# Altium schematic symbol library Schlib2.SchLib: 92 symbols (part 1 of 4)
Pins are listed as number, name and electrical type; pins without a type are passive.

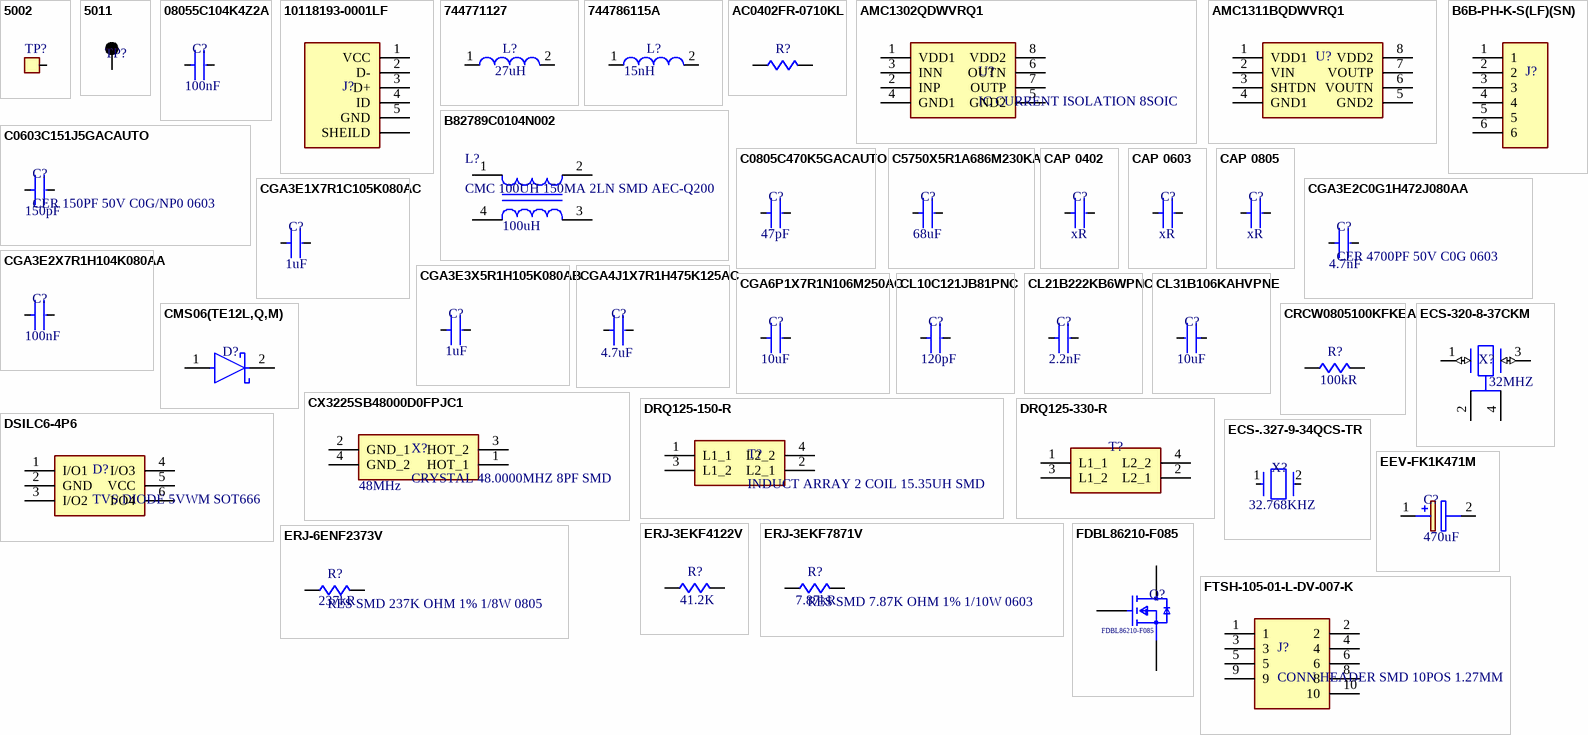
[diagram p0: symbols 5002 to FTSH-105-01-L-DV-007-K]

## 5002
designator TP?, comment PC TEST POINT MINIATURE WHITE  (value not drawn)
Manufacturer: Keystone Electronics; Manufacturer Part Number: 5002; Description: Interconnection Device; Supplier: Digi-Key; Supplier Part Number: 36-5002-ND; RoHS: Yes; Category: Connectors; Stock: 1311223; Pricing: 1=0.38, 25=0.308, 100=0.3015, 250=0.28304, 500=0.2523, 1000=0.17746, 2500=0.16225, 5000=0.15211 (USD); Contact Finish - Termination: Silver (Ag); JESD-609 Code: e4; Connector Type: Interconnection Device; Reach SVHC Compliant: Yes; RoHS Compliant: Yes; ComponentLink1URL: https://datasheet.ciiva.com:443/pdfs/VipMasterIC/IC/KEYC/KEYCS01036/KEYCS02044-1.pdf?src-supplier=IHS+Markit; ComponentLink1Description: https://datasheet.ciiva.com:443/pdfs/VipMasterIC/IC/KEYC/KEYCS01036/KEYCS02044-1.pdf?src-supplier=IHS+Markit; ComponentLink2URL: https://datasheet.ciiva.com/22631/1703983-22631101.pdf?src-supplier=Element14; ComponentLink2Description: https://datasheet.ciiva.com/22631/1703983-22631101.pdf?src-supplier=Element14; ComponentLink3URL: https://datasheet.ciiva.com/16351/m60-2p60-16351079.pdf?src-supplier=Future+Electronics; ComponentLink3Description: https://datasheet.ciiva.com/16351/m60-2p60-16351079.pdf?src-supplier=Future+Electronics; ComponentLink4URL: https://datasheet.ciiva.com/2917/5000-5004-2917628.pdf?src-supplier=Digi-Key; ComponentLink4Description: https://datasheet.ciiva.com/2917/5000-5004-2917628.pdf?src-supplier=Digi-Key
footprint FP-5002-MFG
pins: 1

## 5011
designator TP?, comment PC TEST POINT MULTIPURPOSE BLACK  (value not drawn)
Manufacturer: Keystone Electronics; Manufacturer Part Number: 5011; Description: Interconnection Device; Supplier: Digi-Key; Supplier Part Number: 36-5011-ND; RoHS: Yes; Category: Connectors; Stock: 642738; Pricing: 1=0.38, 25=0.308, 100=0.3015, 250=0.28304, 500=0.2523, 1000=0.17746, 2500=0.16225, 5000=0.15211 (USD); Connector Type: Interconnection Device; Reach SVHC Compliant: Yes; RoHS Compliant: Yes; ComponentLink1URL: https://datasheet.ciiva.com:443/pdfs/VipMasterIC/IC/KEYC/KEYC-S-A0000709140/KEYC-S-A0000709140-1.pdf?src-supplier=IHS+Markit; ComponentLink1Description: https://datasheet.ciiva.com:443/pdfs/VipMasterIC/IC/KEYC/KEYC-S-A0000709140/KEYC-S-A0000709140-1.pdf?src-supplier=IHS+Markit; ComponentLink2URL: https://datasheet.ciiva.com/1454/1718230-1454834.pdf?src-supplier=Element14; ComponentLink2Description: https://datasheet.ciiva.com/1454/1718230-1454834.pdf?src-supplier=Element14; ComponentLink3URL: https://datasheet.ciiva.com/11744/0900766b8009b7c7-11744935.pdf?src-supplier=Rs; ComponentLink3Description: https://datasheet.ciiva.com/11744/0900766b8009b7c7-11744935.pdf?src-supplier=Rs; ComponentLink4URL: https://datasheet.ciiva.com/2917/5011-2917635.pdf?src-supplier=Digi-Key; ComponentLink4Description: https://datasheet.ciiva.com/2917/5011-2917635.pdf?src-supplier=Digi-Key; ComponentLink5URL: https://datasheet.ciiva.com/16351/m60-2p60-16351093.pdf?src-supplier=Future+Electronics; ComponentLink5Description: https://datasheet.ciiva.com/16351/m60-2p60-16351093.pdf?src-supplier=Future+Electronics; ComponentLink6URL: https://datasheet.ciiva.com/46412/1703983-46412138.pdf?src-supplier=Element14; ComponentLink6Description: https://datasheet.ciiva.com/46412/1703983-46412138.pdf?src-supplier=Element14
footprint KSTN-5011_V (Test Point, Dia 3.17mm)
pins: 1

## 08055C104K4Z2A
designator C?, comment value 100nF  (hidden comment: CER 0.1UF 50V X7R 0805)
Manufacturer: Kyocera AVX; Manufacturer Part Number: 08055C104K4Z2A; Dielectric Material: Ceramic; Multilayer: Yes; Tolerance  (fill in as +-): 10%; Reference Standard: AEC-Q200; Supplier: Digi-Key; Supplier Part Number: 478-6048-1-ND; RoHS: Yes; Category: Ceramic Capacitors; Stock: 1342408; Pricing: 1=0.16, 10=0.112, 50=0.0636, 100=0.0527, 500=0.03696, 1000=0.0306 (USD); Mounting Technology: Surface Mount; Pins: 2; Package Shape: Rectangular; Case/Package: 0805; Terminal Finish: Nickel; Min Operating Temperature: -55°C; Max Operating Temperature: 125°C; JESD-609 Code: e3; Capacitor Type: Ceramic; Package Style: SMTMeter; Packaging: Tape and Reel; Tolerance (fill in as +-): 10%; Rated DC Voltage (URdc): 50V; Temperature Characteristics Code: X7R; Termination: Wraparound; Length: 2.01mm; Width: 1.25mm; Height: 1.27mm; Reach SVHC Compliant: Yes; RoHS Compliant: Yes; ComponentLink1URL: https://datasheet.ciiva.com:443/pdfs/VipMasterIC/IC/AVXC/AVXC-S-A0009957027/AVXC-S-A0009957027-1.pdf?src-supplier=IHS+Markit; ComponentLink1Description: https://datasheet.ciiva.com:443/pdfs/VipMasterIC/IC/AVXC/AVXC-S-A0009957027/AVXC-S-A0009957027-1.pdf?src-supplier=IHS+Markit; ComponentLink2URL: https://datasheet.ciiva.com/11504/flexiterm-11504268.pdf?src-supplier=Avnet; ComponentLink2Description: https://datasheet.ciiva.com/11504/flexiterm-11504268.pdf?src-supplier=Avnet; ComponentLink3URL: https://datasheet.ciiva.com/16326/cauto-16326441.pdf?src-supplier=Future+Electronics; ComponentLink3Description: https://datasheet.ciiva.com/16326/cauto-16326441.pdf?src-supplier=Future+Electronics; ComponentLink4URL: https://datasheet.ciiva.com/7812/flexiterm-7812078.pdf?src-supplier=Element14; ComponentLink4Description: https://datasheet.ciiva.com/7812/flexiterm-7812078.pdf?src-supplier=Element14; ComponentLink5URL: https://datasheet.ciiva.com/7812/flexiterm-7812077.pdf?src-supplier=Element14; ComponentLink5Description: https://datasheet.ciiva.com/7812/flexiterm-7812077.pdf?src-supplier=Element14; ComponentLink6URL: https://datasheet.ciiva.com/28613/630895-28613343.pdf?src-supplier=Element14; ComponentLink6Description: https://datasheet.ciiva.com/28613/630895-28613343.pdf?src-supplier=Element14; ComponentLink7URL: https://datasheet.ciiva.com/28613/630895-28613350.pdf?src-supplier=Element14; ComponentLink7Description: https://datasheet.ciiva.com/28613/630895-28613350.pdf?src-supplier=Element14; ComponentLink8URL: https://datasheet.ciiva.com/151/flexiterm-151543.pdf?src-supplier=Digi-Key; ComponentLink8Description: https://datasheet.ciiva.com/151/flexiterm-151543.pdf?src-supplier=Digi-Key; ComponentLink9URL: https://datasheet.ciiva.com/151/flexiterm-151542.pdf?src-supplier=Digi-Key; ComponentLink9Description: https://datasheet.ciiva.com/151/flexiterm-151542.pdf?src-supplier=Digi-Key; ComponentLink10URL: https://datasheet.ciiva.com/151/flexiterm-151544.pdf?src-supplier=Digi-Key; ComponentLink10Description: https://datasheet.ciiva.com/151/flexiterm-151544.pdf?src-supplier=Digi-Key
footprint FP-CL21-IPC_C
pins: 1, 2

## 10118193-0001LF
designator J?, comment CONN RCPT USB2.0 MICRO B SMD R/A  (value not drawn)
FCI Right Angle Surface Mount Mount Female USB Connector; 100 V ac; 1.8A; Manufacturer: Amphenol ICC / FCI; Manufacturer Part Number: 10118193-0001LF; Supplier: Digi-Key; Supplier Part Number: 609-4616-1-ND; RoHS: No; Category: USB Connectors; Stock: 298826; Pricing: 1=0.46, 10=0.404, 25=0.3696, 50=0.3478, 100=0.3334, 250=0.30436, 500=0.28988 (USD); ComponentLink1URL: http://uk.rs-online.com/webdocs/1450/0900766b814507f1.pdf?src-supplier=Rs; ComponentLink1Description: http://uk.rs-online.com/webdocs/1450/0900766b814507f1.pdf?src-supplier=Rs; ComponentLink2URL: https://cdn.amphenol-icc.com/media/wysiwyg/files/documentation/datasheet/inputoutput/io_usb_micro.pdf?src-supplier=Verical; ComponentLink2Description: https://cdn.amphenol-icc.com/media/wysiwyg/files/documentation/datasheet/inputoutput/io_usb_micro.pdf?src-supplier=Verical; ComponentLink3URL: https://cdn.amphenol-icc.com/media/wysiwyg/files/documentation/datasheet/inputoutput/io_usb_micro.pdf?src-supplier=Avnet; ComponentLink3Description: https://cdn.amphenol-icc.com/media/wysiwyg/files/documentation/datasheet/inputoutput/io_usb_micro.pdf?src-supplier=Avnet; ComponentLink4URL: http://www.amphenol-icc.com/media/wysiwyg/files/drawing/10118193.pdf?src-supplier=Digi-Key; ComponentLink4Description: http://www.amphenol-icc.com/media/wysiwyg/files/drawing/10118193.pdf?src-supplier=Digi-Key; ComponentLink5URL: https://cdn.amphenol-icc.com/media/wysiwyg/files/documentation/datasheet/inputoutput/io_usb_micro.pdf?src-supplier=Digi-Key; ComponentLink5Description: https://cdn.amphenol-icc.com/media/wysiwyg/files/documentation/datasheet/inputoutput/io_usb_micro.pdf?src-supplier=Digi-Key; ComponentLink6URL: https://cdn.amphenol-icc.com/media/wysiwyg/files/documentation/datasheet/inputoutput/io_usb_micro.pdf?src-supplier=Arrow+Electronics; ComponentLink6Description: https://cdn.amphenol-icc.com/media/wysiwyg/files/documentation/datasheet/inputoutput/io_usb_micro.pdf?src-supplier=Arrow+Electronics; ComponentLink7URL: https://cdn.amphenol-icc.com/media/wysiwyg/files/documentation/datasheet/inputoutput/io_usb_micro.pdf?src-supplier=Allied+Electronics; ComponentLink7Description: https://cdn.amphenol-icc.com/media/wysiwyg/files/documentation/datasheet/inputoutput/io_usb_micro.pdf?src-supplier=Allied+Electronics; ComponentLink8URL: https://cdn.amphenol-icc.com/media/wysiwyg/files/documentation/datasheet/inputoutput/io_usb_micro.pdf?src-supplier=Onlinecomponents.com; ComponentLink8Description: https://cdn.amphenol-icc.com/media/wysiwyg/files/documentation/datasheet/inputoutput/io_usb_micro.pdf?src-supplier=Onlinecomponents.com; ComponentLink9URL: https://cdn.amphenol-icc.com/media/wysiwyg/files/documentation/datasheet/inputoutput/io_usb_micro.pdf?src-supplier=Mouser; ComponentLink9Description: https://cdn.amphenol-icc.com/media/wysiwyg/files/documentation/datasheet/inputoutput/io_usb_micro.pdf?src-supplier=Mouser; ComponentLink10URL: https://cdn.amphenol-icc.com/media/wysiwyg/files/documentation/datasheet/inputoutput/io_usb_micro.pdf?src-supplier=Rs; ComponentLink10Description: https://cdn.amphenol-icc.com/media/wysiwyg/files/documentation/datasheet/inputoutput/io_usb_micro.pdf?src-supplier=Rs; ComponentLink11URL: https://cdn.amphenol-icc.com/media/wysiwyg/files/documentation/datasheet/inputoutput/io_usb_micro.pdf?src-supplier=Heilind+Electronics; ComponentLink11Description: https://cdn.amphenol-icc.com/media/wysiwyg/files/documentation/datasheet/inputoutput/io_usb_micro.pdf?src-supplier=Heilind+Electronics; ComponentLink12URL: https://cdn.amphenol-icc.com/media/wysiwyg/files/documentation/datasheet/inputoutput/io_usb_micro.pdf?src-supplier=TTI; ComponentLink12Description: https://cdn.amphenol-icc.com/media/wysiwyg/files/documentation/datasheet/inputoutput/io_usb_micro.pdf?src-supplier=TTI; ComponentLink13URL: https://cdn.amphenol-icc.com/media/wysiwyg/files/documentation/datasheet/inputoutput/io_usb_micro.pdf?src-supplier=TME; ComponentLink13Description: https://cdn.amphenol-icc.com/media/wysiwyg/files/documentation/datasheet/inputoutput/io_usb_micro.pdf?src-supplier=TME
footprint 101181930001LF
pins: 1 VCC, 2 D-, 3 D+, 4 ID, 5 GND, MH1 SHEILD, MH2, MP1, MP2, MP3, MP4

## 744771127
designator L?, comment Inductance-Nom (L): 27uH  (hidden comment: FIXED IND 27UH 2.97A 51 MOHM SMD)
Manufacturer: Wurth Electronics; Manufacturer Part Number: 744771127; Core Material: Ferrite; Tolerance: 20%; DC Resistance (DCR): 51mR; Inductor Application: POWER INDUCTOR; Inductor Type: GENERAL PURPOSE INDUCTOR; Channels: 1; Self Resonant Frequency: 11.6MHz; Shape/Size Description: RECTANGULAR PACKAGE; Shielding: Unshielded; Test Frequency: 1kHz; Supplier: Digi-Key; Supplier Part Number: 732-4116-1-ND; RoHS: Yes; Category: Fixed Inductors; Stock: 7873; Pricing: 1=2.26, 10=2.172, 50=1.961, 100=1.759, 250=1.61 (USD); Pins: 2; Terminal Finish: Copper; Min Operating Temperature: -40°C; Max Operating Temperature: 125°C; JESD-609 Code: e1; Manufacturer Series: 744771127; Max Current Rating: 2.97A; Surface Mount: Yes; Terminal Placement: Dual Ended; Termination: One Surface; Reach SVHC Compliant: Yes; RoHS Compliant: Yes; ComponentLink1URL: https://datasheet.ciiva.com:443/pdfs/VipMasterIC/IC/MIDC/MIDC-S-A0007237670/MIDC-S-A0007087757-1.pdf?src-supplier=IHS+Markit; ComponentLink1Description: https://datasheet.ciiva.com:443/pdfs/VipMasterIC/IC/MIDC/MIDC-S-A0007237670/MIDC-S-A0007087757-1.pdf?src-supplier=IHS+Markit; ComponentLink2URL: https://datasheet.ciiva.com/13320/744771127-69883-13320904.pdf?src-supplier=Mouser; ComponentLink2Description: https://datasheet.ciiva.com/13320/744771127-69883-13320904.pdf?src-supplier=Mouser; ComponentLink3URL: https://datasheet.ciiva.com/23790/1645865-23790778.pdf?src-supplier=Newark; ComponentLink3Description: https://datasheet.ciiva.com/23790/1645865-23790778.pdf?src-supplier=Newark; ComponentLink4URL: https://datasheet.ciiva.com/6697/744771127-6697187.pdf?src-supplier=Digi-Key; ComponentLink4Description: https://datasheet.ciiva.com/6697/744771127-6697187.pdf?src-supplier=Digi-Key; ComponentLink5URL: https://datasheet.ciiva.com/30489/0900766b81281ba7-30489238.pdf?src-supplier=Rs; ComponentLink5Description: https://datasheet.ciiva.com/30489/0900766b81281ba7-30489238.pdf?src-supplier=Rs; ComponentLink6URL: https://datasheet.ciiva.com/6697/744771127-6697190.pdf?src-supplier=Digi-Key; ComponentLink6Description: https://datasheet.ciiva.com/6697/744771127-6697190.pdf?src-supplier=Digi-Key; ComponentLink7URL: https://datasheet.ciiva.com/6697/744771127-6697189.pdf?src-supplier=Digi-Key; ComponentLink7Description: https://datasheet.ciiva.com/6697/744771127-6697189.pdf?src-supplier=Digi-Key; ComponentLink8URL: https://datasheet.ciiva.com/48690/001087752-da-01-ml-we-pd-smd-speicherdrossel-74477112-de-en-48690534.pdf?src-supplier=Conrad; ComponentLink8Description: https://datasheet.ciiva.com/48690/001087752-da-01-ml-we-pd-smd-speicherdrossel-74477112-de-en-48690534.pdf?src-supplier=Conrad
footprint WE-PD-L (SMD Inductor, 2-Leads, Body 12.0 x 12.0 mm)
pins: 1, 2

## 744786115A
designator L?, comment value 15nH  (hidden comment: FIXED IND 15NH 500MA 500MOHM SMD)
Manufacturer: Wurth Electronics; Manufacturer Part Number: 744786115A; Core Material: Ceramic; Inductance Tolerance: 5%; Shielding: Unshielded; DC Resistance (DCR): 500mR; Self Resonant Frequency: 2.3GHz; Test Frequency: 100MHz; Supplier: Digi-Key; Supplier Part Number: 732-6265-1-ND; RoHS: Yes; Category: Fixed Inductors; Stock: 34669; Pricing: 1=0.21, 50=0.197, 100=0.185, 500=0.167, 1000=0.143, 2000=0.113 (USD); Mounting Technology: Surface Mount; Case/Package: 0603; Case Code (Metric): 1608; Case Code (Imperial): 0603; Min Operating Temperature: -55°C; Max Operating Temperature: 125°C; Packaging: Cut Tape; Current Rating: 500mA; Max DC Current: 500mA; Tolerance: 5%; Series: WE-MK; Length: 0.063inch; Width: 0.031inch; Height - Seated (Max): 0.037inch; RoHS Compliant: Yes; Reach SVHC Compliant: Unknown; ComponentLink1URL: http://www.farnell.com/datasheets/1818771.pdf?src-supplier=Farnell; ComponentLink1Description: http://www.farnell.com/datasheets/1818771.pdf?src-supplier=Farnell; ComponentLink2URL: http://www.farnell.com/datasheets/1818771.pdf?src-supplier=Element14; ComponentLink2Description: http://www.farnell.com/datasheets/1818771.pdf?src-supplier=Element14; ComponentLink3URL: https://katalog.we-online.de/pbs/datasheet/744786115A.pdf?src-supplier=Digi-Key; ComponentLink3Description: https://katalog.we-online.de/pbs/datasheet/744786115A.pdf?src-supplier=Digi-Key
footprint FP-LBMF1608-0_8-0_2-IPC_C
pins: 1, 2

## AC0402FR-0710KL
designator R?, comment RES SMD 10K OHM 1% 1/16W 0402  (value not drawn)
Manufacturer: Yageo; Manufacturer Part Number: AC0402FR-0710KL; Additional Feature: LASER TRIMMABLE; Power: 62.5mW; Rated Temperature: 70°C; Value: 10kR; Temperature Coefficient: 100ppm/°C; Working Voltage: 50V; Package Height: 0.32mm; Package Length: 1mm; Package Width: 0.5mm; Reference Standard: AEC-Q200; Supplier: Future Electronics; Supplier Part Number: 2025338; RoHS: Yes; Category: Chip SMD Resistors; Stock: 15780000; Pricing: 10000=0.0014, 50000=0.0013, 250000=0.0012, 750000=0.0012, 2000000=0.0011 (USD); Mounting Technology: Surface Mount; Pins: 2; Package Shape: Rectangular; Case/Package: 0402; Terminal Finish: Nickel; Min Operating Temperature: -55°C; Max Operating Temperature: 155°C; Tolerance: 1%; JESD-609 Code: e3; Resistor Type: FIXED RESISTOR; Construction: Chip; Package Style: SMTMeter; Packaging: Tape and Reel; Technology: METAL GLAZE/THICK FILM; Termination: Wraparound; Reach SVHC Compliant: Yes; RoHS Compliant: Yes; ComponentLink1URL: https://datasheet.ciiva.com:443/pdfs/VipMasterIC/IC/YAGO/YAGO-S-A0003597364/YAGO-S-A0003597364-1.pdf?src-supplier=IHS+Markit; ComponentLink1Description: https://datasheet.ciiva.com:443/pdfs/VipMasterIC/IC/YAGO/YAGO-S-A0003597364/YAGO-S-A0003597364-1.pdf?src-supplier=IHS+Markit; ComponentLink2URL: https://datasheet.ciiva.com/12656/pyu-ac-51-rohs-l-2-12656634.pdf?src-supplier=Mouser; ComponentLink2Description: https://datasheet.ciiva.com/12656/pyu-ac-51-rohs-l-2-12656634.pdf?src-supplier=Mouser
footprint FP-AC0402-IPC_B
pins: 1, 2

## AMC1302QDWVRQ1
designator U?, comment IC CURRENT ISOLATION 8SOIC
footprint FP-DWV0008A-IPC_B
pins: 1 VDD1 (power), 2 INP (hiz), 3 INN (hiz), 4 GND1 (power), 5 GND2 (power), 6 OUTN, 7 OUTP, 8 VDD2 (power)

## AMC1311BQDWVRQ1
designator U?, comment IC VOLTAGE AMP ISOLATION 8SOIC  (value not drawn)
Operational Amplifier, 4 Func, 1600uV Offset-Max, CMOS, PDSO14; Manufacturer: Texas Instruments; Manufacturer Part Number: AMC1302QDWVRQ1; Amplifier Type: ISOLATION AMPLIFIER; Supplier: Digi-Key; Supplier Part Number: 296-50924-1-ND; RoHS: Yes; Category: Amplifiers - Op Amps, Buffer, Instrumentation; Stock: 2584; Pricing: 1=8.35, 10=7.541, 25=7.1904, 100=6.2435, 250=5.96284, 500=5.43672 (USD); Reach SVHC Compliant: Yes; RoHS Compliant: Yes; ComponentLink1URL: https://www.ti.com:443/lit/ds/symlink/amc1302-q1.pdf?src-supplier=IHS+Markit; ComponentLink1Description: https://www.ti.com:443/lit/ds/symlink/amc1302-q1.pdf?src-supplier=IHS+Markit; ComponentLink2URL: http://www.ti.com/general/docs/suppproductinfo.tsp?distId=10&amp;gotoUrl=http%3A%2F%2Fwww.ti.com%2Flit%2Fgpn%2Famc1302-q1&src-supplier=Digi-Key; ComponentLink2Description: http://www.ti.com/general/docs/suppproductinfo.tsp?distId=10&amp;gotoUrl=http%3A%2F%2Fwww.ti.com%2Flit%2Fgpn%2Famc1302-q1&src-supplier=Digi-Key; ComponentLink3URL: http://www.ti.com/lit/gpn/amc1302-q1?src-supplier=Digi-Key; ComponentLink3Description: http://www.ti.com/lit/gpn/amc1302-q1?src-supplier=Digi-Key
footprint SOIC127P1150X280-8N
pins: 1 VDD1, 2 VIN, 3 SHTDN, 4 GND1, 5 GND2, 6 VOUTN, 7 VOUTP, 8 VDD2

## B6B-PH-K-S(LF)(SN)
designator J?, comment CONN HEADER VERT 6POS 2MM  (value not drawn)
Manufacturer: JST; Manufacturer Part Number: B6B-PH-K-S(LF)(SN); Contact Resistance: 20mR; Current Rating: 2A; Voltage Rating: 100V; Number of Positions: 6; Insulation Resistance: 1MR; Gender: Male; Mated Stacking Heights: 8mm; Supplier: Digi-Key; Supplier Part Number: 455-1708-ND; RoHS: Yes; Category: Headers and Wire Housings; Stock: 93503; Pricing: 1=0.36, 10=0.304, 100=0.2362, 500=0.20242, 1000=0.16868, 5000=0.14458, 10000=0.13495 (USD); Mounting Technology: Through Hole; Pins: 6; Contact Material: Brass,Tin; Contact Plating: Tin,Copper; Housing Color: White; Housing Material: Polyamide; Contact Shape: Square; Contact Finish - Mating: TIN; Insulation Material: Nylon; Insulation Color: Natural; Min Operating Temperature: -25°C; Max Operating Temperature: 85°C; Number of Rows: 1; Packaging: Bulk; Max Current Rating: 2A; Termination: Solder; Fastening Type: Detent; Number of Contacts: 6; Max Voltage Rating (AC): 100V; Orientation: Straight; Series: PH; Contact Type: Male Pin; Number of Poles: 6; Voltage Rating (AC): 100V; Working Voltage: 100V; Connector Type: Header; Length: 13.9mm; Width: 4.5mm; Height: 9.4mm; Pitch: 2mm; Lead Pitch: 2mm; Depth: 4.5mm; Reach SVHC Compliant: No; Lead Free: Lead Free; Flammability Rating: UL94 V-0; ComponentLink1URL: https://datasheet.ciiva.com/712/eph-712563.pdf?src-supplier=Digi-Key; ComponentLink1Description: https://datasheet.ciiva.com/712/eph-712563.pdf?src-supplier=Digi-Key; ComponentLink2URL: https://datasheet.ciiva.com/26894/getdatasheetpartid-639917-26894487.pdf?src-supplier=Verical; ComponentLink2Description: https://datasheet.ciiva.com/26894/getdatasheetpartid-639917-26894487.pdf?src-supplier=Verical; ComponentLink3URL: https://datasheet.ciiva.com/8052/80560-8052027.pdf?src-supplier=Element14; ComponentLink3Description: https://datasheet.ciiva.com/8052/80560-8052027.pdf?src-supplier=Element14
footprint JST B6B-PH-K
pins: 1, 2, 3, 4, 5, 6

## B82789C0104N002
designator L?, comment CMC 100UH 150MA 2LN SMD AEC-Q200  value 100uH
Manufacturer: TDK EPCOS; Manufacturer Part Number: B82789C0104N002; Manufacturer Series: B82789C0; DC Resistance-Max: 1.5R; Filter Type: DATA LINE FILTER; Channels: 2; Output Impedance: 50R; Voltage Rating: 80V; Supplier: Digi-Key; Supplier Part Number: 495-5751-1-ND; RoHS: Yes; Category: Fixed Inductors; Stock: 40158; Pricing: 1=1.7, 10=1.571, 25=1.44, 50=1.2304, 100=1.0995, 250=0.94244, 500=0.8901, 1000=0.81156 (USD); Mounting Technology: Surface Mount; Terminal Finish: Tin; Min Operating Temperature: -55°C; Max Operating Temperature: 125°C; JESD-609 Code: e3; Packaging: Tape and Reel; Current Rating: 150mA; Length: 4.5mm; Height: 3mm; Reach SVHC Compliant: Yes; RoHS Compliant: Yes; ComponentLink1URL: https://datasheet.ciiva.com:443/pdfs/VipMasterIC/IC/TDKC/TDKC-S-A0008970033/TDKC-S-A0008970033-1.pdf?src-supplier=IHS+Markit; ComponentLink1Description: https://datasheet.ciiva.com:443/pdfs/VipMasterIC/IC/TDKC/TDKC-S-A0008970033/TDKC-S-A0008970033-1.pdf?src-supplier=IHS+Markit; ComponentLink2URL: https://datasheet.ciiva.com/22684/1899203-22684429.pdf?src-supplier=Element14; ComponentLink2Description: https://datasheet.ciiva.com/22684/1899203-22684429.pdf?src-supplier=Element14
footprint FP-B82789C0-MFG
pins: 1, 2, 3, 4

## C0603C151J5GACAUTO
designator C?, comment CER 150PF 50V C0G/NP0 0603  value 150pF
Manufacturer: KEMET; Manufacturer Part Number: C0603C151J5GACAUTO; Dielectric Material: Ceramic; Tolerance  (fill in as +-): 5%; Multilayer: Yes; Temperature Characteristics Code: C0G; Reference Standard: AEC-Q200; Supplier: Digi-Key; Supplier Part Number: 399-6860-1-ND; RoHS: Yes; Category: Ceramic Capacitors; Stock: 108002; Pricing: 1=0.1, 10=0.072, 50=0.0394, 100=0.0322, 500=0.02298, 1000=0.01805 (USD); Mounting Technology: Surface Mount; Pins: 2; Terminal Finish: Nickel; Package Shape: Rectangular; Case/Package: 0603; Min Operating Temperature: -55°C; Max Operating Temperature: 125°C; JESD-609 Code: e3; Capacitor Type: Ceramic; Packaging: Tape and Reel; Tolerance (fill in as +-): 5%; Rated DC Voltage (URdc): 50V; Termination: Wraparound; Package Style: SMTMeter; Length: 1.6mm; Width: 0.8mm; Height: 0.8mm; Reach SVHC Compliant: Yes; RoHS Compliant: Yes; ComponentLink1URL: https://datasheet.ciiva.com:443/pdfs/VipMasterIC/IC/KEME/KEME-S-A0008958445/KEME-S-A0008958445-1.pdf?src-supplier=IHS+Markit; ComponentLink1Description: https://datasheet.ciiva.com:443/pdfs/VipMasterIC/IC/KEME/KEME-S-A0008958445/KEME-S-A0008958445-1.pdf?src-supplier=IHS+Markit; ComponentLink2URL: https://datasheet.ciiva.com/22693/1633156-22693989.pdf?src-supplier=Element14; ComponentLink2Description: https://datasheet.ciiva.com/22693/1633156-22693989.pdf?src-supplier=Element14
footprint FP-CGA3E-0_3-0_1-IPC_C
pins: 1, 2

## C0805C470K5GACAUTO
designator C?, comment value 47pF  (hidden comment: CER 47PF 50V C0G/NP0 0805)
Manufacturer: KEMET; Manufacturer Part Number: C0805C470K5GACAUTO; Dielectric Material: Ceramic; Multilayer: Yes; Tolerance  (fill in as +-): 10%; Temperature Characteristics Code: C0G; Reference Standard: AEC-Q200; Supplier: Digi-Key; Supplier Part Number: 399-C0805C470K5GACAUTOCT-ND; RoHS: Yes; Category: Ceramic Capacitors; Stock: 11331; Pricing: 1=0.15, 10=0.11, 50=0.0626, 100=0.0518, 500=0.03634, 1000=0.03009 (USD); Pins: 2; Case/Package: 0805; Terminal Finish: Nickel; Min Operating Temperature: -55°C; Max Operating Temperature: 125°C; JESD-609 Code: e3; Capacitor Type: Ceramic; Package Style: SMTMeter; Packaging: Tape and Reel; Tolerance (fill in as +-): 10%; Rated DC Voltage (URdc): 50V; Length: 2mm; Width: 1.25mm; Height: 0.78mm; Reach SVHC Compliant: Yes; RoHS Compliant: Yes; ComponentLink1URL: https://datasheet.ciiva.com:443/pdfs/VipMasterIC/IC/KEME/KEME-S-A0008958445/KEME-S-A0008958445-1.pdf?src-supplier=IHS+Markit; ComponentLink1Description: https://datasheet.ciiva.com:443/pdfs/VipMasterIC/IC/KEME/KEME-S-A0008958445/KEME-S-A0008958445-1.pdf?src-supplier=IHS+Markit
footprint FP-CL21-IPC_C
pins: 1, 2

## C5750X5R1A686M230KA
designator C?, comment value 68uF  (hidden comment: CAP CER 68UF 10V X5R 2220)
Manufacturer: TDK; Manufacturer Part Number: C5750X5R1A686M230KA; Dielectric Material: Ceramic; Multilayer: Yes; Tolerance  (fill in as +-): 20%; Supplier: Digi-Key; Supplier Part Number: 445-1451-1-ND; RoHS: Yes; Category: Ceramic Capacitors; Stock: 58570; Pricing: 1=2.58, 10=2.083, 50=1.818, 100=1.5908 (USD); Mounting Technology: Surface Mount; Pins: 2; Package Shape: Rectangular; Case/Package: 2220; Terminal Finish: Nickel; Min Operating Temperature: -55°C; Max Operating Temperature: 85°C; JESD-609 Code: e3; Capacitor Type: Ceramic; Tolerance (fill in as +-): 20%; Rated DC Voltage (URdc): 10V; Temperature Characteristics Code: X5R; Termination: Wraparound; Package Style: SMTMeter; Packaging: Tape and Reel; Length: 5.7mm; Width: 5mm; Height: 2.3mm; Reach SVHC Compliant: Yes; RoHS Compliant: Yes; ComponentLink1URL: https://datasheet.ciiva.com:443/pdfs/VipMasterIC/IC/TDKC/TDKC-S-A0008796792/TDKC-S-A0008796792-1.pdf?src-supplier=IHS+Markit; ComponentLink1Description: https://datasheet.ciiva.com:443/pdfs/VipMasterIC/IC/TDKC/TDKC-S-A0008796792/TDKC-S-A0008796792-1.pdf?src-supplier=IHS+Markit; ComponentLink2URL: https://datasheet.ciiva.com/24219/c5750x5r1a686m230ka-265682-24219603.pdf?src-supplier=Mouser; ComponentLink2Description: https://datasheet.ciiva.com/24219/c5750x5r1a686m230ka-265682-24219603.pdf?src-supplier=Mouser; ComponentLink3URL: https://datasheet.ciiva.com/11788/0900766b80c1bb00-11788343.pdf?src-supplier=Rs; ComponentLink3Description: https://datasheet.ciiva.com/11788/0900766b80c1bb00-11788343.pdf?src-supplier=Rs; ComponentLink4URL: https://datasheet.ciiva.com/6283/tdkmlcccaprange-6283790.pdf?src-supplier=Digi-Key; ComponentLink4Description: https://datasheet.ciiva.com/6283/tdkmlcccaprange-6283790.pdf?src-supplier=Digi-Key; ComponentLink5URL: https://datasheet.ciiva.com/16427/e412-c-16427899.pdf?src-supplier=Future+Electronics; ComponentLink5Description: https://datasheet.ciiva.com/16427/e412-c-16427899.pdf?src-supplier=Future+Electronics; ComponentLink6URL: https://datasheet.ciiva.com/7975/1796654-7975198.pdf?src-supplier=Element14; ComponentLink6Description: https://datasheet.ciiva.com/7975/1796654-7975198.pdf?src-supplier=Element14; ComponentLink7URL: https://datasheet.ciiva.com/28563/1571323-28563223.pdf?src-supplier=Element14; ComponentLink7Description: https://datasheet.ciiva.com/28563/1571323-28563223.pdf?src-supplier=Element14
footprint C5750_Commercial
pins: 1, 2

## CAP 0402
designator C?, comment value xR  (hidden comment: x)
footprint FP-GCM155-0_05-IPC_C
pins: 1, 2

## CAP 0603
designator C?, comment value xR  (hidden comment: x)
footprint FP-CGA3E-0_3-0_1-IPC_C
pins: 1, 2

## CAP 0805
designator C?, comment value xR  (hidden comment: x)
footprint FP-CL21-IPC_C
pins: 1, 2

## CGA3E1X7R1C105K080AC
designator C?, comment value 1uF  (hidden comment: CER 1UF 16V X7R 0603)
Manufacturer: TDK; Manufacturer Part Number: CGA3E1X7R1C105K080AC; Dielectric Material: Ceramic; Multilayer: Yes; Tolerance  (fill in as +-): 10%; Reference Standard: AEC-Q200; Supplier: Digi-Key; Supplier Part Number: 445-12539-1-ND; RoHS: Yes; Category: Ceramic Capacitors; Stock: 2379528; Pricing: 1=0.12, 10=0.088, 50=0.0498, 100=0.0413, 500=0.02896, 1000=0.02397 (USD); Mounting Technology: Surface Mount; Pins: 2; Package Shape: Rectangular; Case/Package: 0603; Terminal Finish: Nickel; Min Operating Temperature: -55°C; Max Operating Temperature: 125°C; JESD-609 Code: e3; Capacitor Type: Ceramic; Package Style: SMTMeter; Packaging: Tape and Reel; Tolerance (fill in as +-): 10%; Rated DC Voltage (URdc): 16V; Temperature Characteristics Code: X7R; Termination: Wraparound; Length: 1.6mm; Width: 0.8mm; Height: 0.8mm; Reach SVHC Compliant: Yes; RoHS Compliant: Yes; ComponentLink1URL: https://datasheet.ciiva.com:443/pdfs/VipMasterIC/IC/TDKC/TDKC-S-A0008953915/TDKC-S-A0008953915-1.pdf?src-supplier=IHS+Markit; ComponentLink1Description: https://datasheet.ciiva.com:443/pdfs/VipMasterIC/IC/TDKC/TDKC-S-A0008953915/TDKC-S-A0008953915-1.pdf?src-supplier=IHS+Markit; ComponentLink2URL: http://www.farnell.com/datasheets/2292075.pdf?src-supplier=Farnell; ComponentLink2Description: http://www.farnell.com/datasheets/2292075.pdf?src-supplier=Farnell; ComponentLink3URL: https://product.tdk.com/info/en/documents/chara_sheet/CGA3E1X7R1C105K080AC.pdf?src-supplier=Digi-Key; ComponentLink3Description: https://product.tdk.com/info/en/documents/chara_sheet/CGA3E1X7R1C105K080AC.pdf?src-supplier=Digi-Key; ComponentLink4URL: https://product.tdk.com/info/en/catalog/datasheets/mlcc_automotive_general_en.pdf?src-supplier=Digi-Key; ComponentLink4Description: https://product.tdk.com/info/en/catalog/datasheets/mlcc_automotive_general_en.pdf?src-supplier=Digi-Key; ComponentLink5URL: http://product.tdk.com/capacitor/mlcc/en/documents/mlcc_automotive_general_en.pdf?src-supplier=Avnet; ComponentLink5Description: http://product.tdk.com/capacitor/mlcc/en/documents/mlcc_automotive_general_en.pdf?src-supplier=Avnet; ComponentLink6URL: http://www.farnell.com/datasheets/2292075.pdf?src-supplier=Element14; ComponentLink6Description: http://www.farnell.com/datasheets/2292075.pdf?src-supplier=Element14; ComponentLink7URL: http://www.farnell.com/datasheets/2292075.pdf?src-supplier=Newark; ComponentLink7Description: http://www.farnell.com/datasheets/2292075.pdf?src-supplier=Newark; ComponentLink8URL: http://product.tdk.com/capacitor/mlcc/detailed_information.php?lang=en&ref=jp&part_no=CGA3E1X7R1C105K080AC&src-supplier=Mouser; ComponentLink8Description: http://product.tdk.com/capacitor/mlcc/detailed_information.php?lang=en&ref=jp&part_no=CGA3E1X7R1C105K080AC&src-supplier=Mouser
footprint FP-CGA3E-0_3-0_1-IPC_C
pins: 1, 2

## CGA3E2C0G1H472J080AA
designator C?, comment CER 4700PF 50V C0G 0603  value 4.7nF
CAP CER 4700PF 50V C0G 0603; Manufacturer: TDK; Manufacturer Part Number: CGA3E2C0G1H472J080AA; Dielectric Material: Ceramic; Multilayer: Yes; Tolerance  (fill in as +-): 5%; Reference Standard: AEC-Q200; Supplier: Digi-Key; Supplier Part Number: 445-6912-1-ND; RoHS: Yes; Category: Ceramic Capacitors; Stock: 784111; Pricing: 1=0.22, 10=0.152, 50=0.101, 100=0.0858, 500=0.0606, 1000=0.05302 (USD); Mounting Technology: Surface Mount; Pins: 2; Package Shape: Rectangular; Case/Package: 0603; Terminal Finish: Nickel; Min Operating Temperature: -55°C; Max Operating Temperature: 125°C; JESD-609 Code: e3; Capacitor Type: Ceramic; Package Style: SMTMeter; Packaging: Tape and Reel; Tolerance (fill in as +-): 5%; Rated DC Voltage (URdc): 50V; Temperature Characteristics Code: C0G; Termination: Wraparound; Length: 1.6mm; Width: 0.8mm; Height: 0.8mm; Reach SVHC Compliant: Yes; RoHS Compliant: Yes; ComponentLink1URL: https://datasheet.ciiva.com:443/pdfs/VipMasterIC/IC/TDKC/TDKC-S-A0008953915/TDKC-S-A0008953915-1.pdf?src-supplier=IHS+Markit; ComponentLink1Description: https://datasheet.ciiva.com:443/pdfs/VipMasterIC/IC/TDKC/TDKC-S-A0008953915/TDKC-S-A0008953915-1.pdf?src-supplier=IHS+Markit; ComponentLink2URL: https://datasheet.ciiva.com/24217/mlcc-automotive-general-en-24217054.pdf?src-supplier=Mouser; ComponentLink2Description: https://datasheet.ciiva.com/24217/mlcc-automotive-general-en-24217054.pdf?src-supplier=Mouser; ComponentLink3URL: https://datasheet.ciiva.com/6149/1807242-6149350.pdf?src-supplier=Farnell; ComponentLink3Description: https://datasheet.ciiva.com/6149/1807242-6149350.pdf?src-supplier=Farnell; ComponentLink4URL: https://datasheet.ciiva.com/7975/1807242-7975303.pdf?src-supplier=Element14; ComponentLink4Description: https://datasheet.ciiva.com/7975/1807242-7975303.pdf?src-supplier=Element14
footprint FP-CGA3E-0_3-0_1-IPC_C
pins: 1, 2

## CGA3E2X7R1H104K080AA
designator C?, comment value 100nF  (hidden comment: CER 0.1UF 50V X7R 0603)
Manufacturer: TDK; Manufacturer Part Number: CGA3E2X7R1H104K080AA; Dielectric Material: Ceramic; Multilayer: Yes; Tolerance  (fill in as +-): 10%; Reference Standard: AEC-Q200; Supplier: Digi-Key; Supplier Part Number: 445-5666-1-ND; RoHS: Yes; Category: Ceramic Capacitors; Stock: 7530246; Pricing: 1=0.1, 10=0.067, 50=0.0364, 100=0.0297, 500=0.0212, 1000=0.01666 (USD); Mounting Technology: Surface Mount; Pins: 2; Package Shape: Rectangular; Case/Package: 0603; Terminal Finish: Nickel; Min Operating Temperature: -55°C; Max Operating Temperature: 125°C; Capacitor Type: Ceramic; JESD-609 Code: e3; Package Style: SMTMeter; Packaging: Tape and Reel; Tolerance (fill in as +-): 10%; Rated DC Voltage (URdc): 50V; Temperature Characteristics Code: X7R; Termination: Wraparound; Length: 1.6mm; Width: 0.8mm; Height: 0.8mm; Reach SVHC Compliant: Yes; RoHS Compliant: Yes; ComponentLink1URL: https://datasheet.ciiva.com:443/pdfs/VipMasterIC/IC/TDKC/TDKC-S-A0008953915/TDKC-S-A0008953915-1.pdf?src-supplier=IHS+Markit; ComponentLink1Description: https://datasheet.ciiva.com:443/pdfs/VipMasterIC/IC/TDKC/TDKC-S-A0008953915/TDKC-S-A0008953915-1.pdf?src-supplier=IHS+Markit; ComponentLink2URL: https://datasheet.ciiva.com/24216/cga3e2x7r1h104k080aa-266291-24216208.pdf?src-supplier=Mouser; ComponentLink2Description: https://datasheet.ciiva.com/24216/cga3e2x7r1h104k080aa-266291-24216208.pdf?src-supplier=Mouser; ComponentLink3URL: https://datasheet.ciiva.com/15192/getdatasheetpartid-715867-15192412.pdf?src-supplier=Verical; ComponentLink3Description: https://datasheet.ciiva.com/15192/getdatasheetpartid-715867-15192412.pdf?src-supplier=Verical; ComponentLink4URL: https://datasheet.ciiva.com/23803/1936565-23803084.pdf?src-supplier=Newark; ComponentLink4Description: https://datasheet.ciiva.com/23803/1936565-23803084.pdf?src-supplier=Newark; ComponentLink5URL: https://datasheet.ciiva.com/22725/1735392-22725642.pdf?src-supplier=Element14; ComponentLink5Description: https://datasheet.ciiva.com/22725/1735392-22725642.pdf?src-supplier=Element14; ComponentLink6URL: https://datasheet.ciiva.com/46385/1735392-46385708.pdf?src-supplier=Element14; ComponentLink6Description: https://datasheet.ciiva.com/46385/1735392-46385708.pdf?src-supplier=Element14; ComponentLink7URL: https://datasheet.ciiva.com/16500/mlccspec-automotive-general-midvoltage-en-16500693.pdf?src-supplier=Future+Electronics; ComponentLink7Description: https://datasheet.ciiva.com/16500/mlccspec-automotive-general-midvoltage-en-16500693.pdf?src-supplier=Future+Electronics
footprint FP-CGA3E-0_3-0_1-IPC_C
pins: 1, 2

## CGA3E3X5R1H105K080AB
designator C?, comment value 1uF  (hidden comment: CAP CER 1UF 50V X5R 0603)
Manufacturer: TDK; Manufacturer Part Number: CGA3E3X5R1H105K080AB; Dielectric Material: Ceramic; Multilayer: Yes; Tolerance  (fill in as +-): 10%; Reference Standard: AEC-Q200; Supplier: Digi-Key; Supplier Part Number: 445-7878-1-ND; RoHS: Yes; Category: Ceramic Capacitors; Stock: 225472; Pricing: 1=0.22, 10=0.152, 50=0.101, 100=0.0858, 500=0.0606, 1000=0.05302 (USD); Mounting Technology: Surface Mount; Pins: 2; Package Shape: Rectangular; Case/Package: 0603; Terminal Finish: Nickel; Min Operating Temperature: -55°C; Max Operating Temperature: 85°C; JESD-609 Code: e3; Capacitor Type: Ceramic; Package Style: SMTMeter; Packaging: Tape and Reel; Tolerance (fill in as +-): 10%; Rated DC Voltage (URdc): 50V; Temperature Characteristics Code: X5R; Termination: Wraparound; Length: 1.6mm; Width: 0.8mm; Height: 0.8mm; Reach SVHC Compliant: Yes; RoHS Compliant: Yes; ComponentLink1URL: https://datasheet.ciiva.com:443/pdfs/VipMasterIC/IC/TDKC/TDKC-S-A0008953915/TDKC-S-A0008953915-1.pdf?src-supplier=IHS+Markit; ComponentLink1Description: https://datasheet.ciiva.com:443/pdfs/VipMasterIC/IC/TDKC/TDKC-S-A0008953915/TDKC-S-A0008953915-1.pdf?src-supplier=IHS+Markit; ComponentLink2URL: https://datasheet.ciiva.com/24218/cga3e3x5r1h105k080ab-265988-24218999.pdf?src-supplier=Mouser; ComponentLink2Description: https://datasheet.ciiva.com/24218/cga3e3x5r1h105k080ab-265988-24218999.pdf?src-supplier=Mouser; ComponentLink3URL: https://datasheet.ciiva.com/7975/1807242-7975388.pdf?src-supplier=Element14; ComponentLink3Description: https://datasheet.ciiva.com/7975/1807242-7975388.pdf?src-supplier=Element14
footprint FP-CGA3E-0_3-0_1-IPC_C
pins: 1, 2

## CGA4J1X7R1H475K125AC
designator C?, comment value 4.7uF  (hidden comment: CER 4.7UF 50V X7R 0805)
footprint FP-CL21-IPC_C
pins: 1, 2

## CGA6P1X7R1N106M250AC
designator C?, comment value 10uF  (hidden comment: CER 10UF 75V X7R 1210)
Manufacturer: TDK; Manufacturer Part Number: CGA6P1X7R1N106M250AC; Supplier: Digi-Key; Supplier Part Number: 445-181609-1-ND; RoHS: Yes; Category: Ceramic Capacitors; Stock: 81859; Pricing: 1=0.98, 10=0.748, 50=0.6218, 100=0.5354, 500=0.4145 (USD); ComponentLink1URL: https://datasheet.ciiva.com:443/pdfs/VipMasterIC/IC/TDKC/TDKC-S-A0008953915/TDKC-S-A0008953915-1.pdf?src-supplier=IHS+Markit; ComponentLink1Description: https://datasheet.ciiva.com:443/pdfs/VipMasterIC/IC/TDKC/TDKC-S-A0008953915/TDKC-S-A0008953915-1.pdf?src-supplier=IHS+Markit
footprint FP-GCJ32D-0_4-IPC_C
pins: 1, 2

## CL10C121JB81PNC
designator C?, comment value 120pF  (hidden comment: CER 120PF 50V C0G/NP0 0603)
Manufacturer: Samsung; Manufacturer Part Number: CL10C121JB81PNC; Dielectric Material: Ceramic; Multilayer: Yes; Tolerance  (fill in as +-): 5%; Temperature Characteristics Code: C0G; Reference Standard: AEC-Q200; Supplier: Digi-Key; Supplier Part Number: 1276-2179-1-ND; RoHS: Yes; Category: Ceramic Capacitors; Stock: 131950; Pricing: 1=0.12, 10=0.086, 50=0.0488, 100=0.0404, 500=0.02834, 1000=0.02346 (USD); Mounting Technology: Surface Mount; Pins: 2; Package Shape: Rectangular; Case/Package: 0603; Terminal Finish: Nickel; Min Operating Temperature: -55°C; Max Operating Temperature: 125°C; JESD-609 Code: e3; Capacitor Type: Ceramic; Package Style: SMTMeter; Packaging: Tape and Reel; Tolerance (fill in as +-): 5%; Rated DC Voltage (URdc): 50V; Termination: Wraparound; Length: 1.6mm; Width: 0.8mm; Height: 0.8mm; Reach SVHC Compliant: Yes; RoHS Compliant: Yes; ComponentLink1URL: https://datasheet.ciiva.com:443/pdfs/VipMasterIC/IC/SEMS/SEMS-S-A0005597953/SEMS-S-A0005597221-1.pdf?src-supplier=IHS+Markit; ComponentLink1Description: https://datasheet.ciiva.com:443/pdfs/VipMasterIC/IC/SEMS/SEMS-S-A0005597953/SEMS-S-A0005597221-1.pdf?src-supplier=IHS+Markit; ComponentLink2URL: https://datasheet.ciiva.com/15195/getdatasheetpartid-503847-15195794.pdf?src-supplier=Verical; ComponentLink2Description: https://datasheet.ciiva.com/15195/getdatasheetpartid-503847-15195794.pdf?src-supplier=Verical
footprint FP-CGA3E-0_3-0_1-IPC_C
pins: 1, 2

## CL21B222KB6WPNC
designator C?, comment value 2.2nF  (hidden comment: CER 2200PF 50V X7R 0805)
Manufacturer: Samsung; Manufacturer Part Number: CL21B222KB6WPNC; Dielectric Material: Ceramic; Multilayer: Yes; Tolerance  (fill in as +-): 10%; Reference Standard: AEC-Q200; Supplier: Digi-Key; Supplier Part Number: 1276-6555-1-ND; RoHS: Yes; Category: Ceramic Capacitors; Stock: 124733; Pricing: 1=0.24, 10=0.161, 50=0.0968, 100=0.0818, 500=0.05596, 1000=0.0495 (USD); Mounting Technology: Surface Mount; Pins: 2; Package Shape: Rectangular; Case/Package: 0805; Terminal Finish: Nickel; Min Operating Temperature: -55°C; Max Operating Temperature: 125°C; JESD-609 Code: e3; Capacitor Type: Ceramic; Packaging: Tape and Reel; Tolerance (fill in as +-): 10%; Rated DC Voltage (URdc): 50V; Temperature Characteristics Code: X7R; Termination: Wraparound; Reach SVHC Compliant: Yes; RoHS Compliant: Yes; ComponentLink1URL: https://datasheet.ciiva.com:443/pdfs/VipMasterIC/IC/SEMS/SEMS-S-A0008886043/SEMS-S-A0008886043-1.pdf?src-supplier=IHS+Markit; ComponentLink1Description: https://datasheet.ciiva.com:443/pdfs/VipMasterIC/IC/SEMS/SEMS-S-A0008886043/SEMS-S-A0008886043-1.pdf?src-supplier=IHS+Markit; ComponentLink2URL: http://www.samsungsem.com/kr/support/library/product-catalog/mlcc.jsp?src-supplier=Digi-Key; ComponentLink2Description: http://www.samsungsem.com/kr/support/library/product-catalog/mlcc.jsp?src-supplier=Digi-Key; ComponentLink3URL: http://www.samsungsem.com/kr/support/product-search/mlcc/CL21B222KB6WPNC.jsp?src-supplier=Digi-Key; ComponentLink3Description: http://www.samsungsem.com/kr/support/product-search/mlcc/CL21B222KB6WPNC.jsp?src-supplier=Digi-Key; ComponentLink4URL: http://www.samsungsem.com/servlet/FileDownload?type=spec&file=CL21B222KB6WPNC.pdf&src-supplier=Avnet; ComponentLink4Description: http://www.samsungsem.com/servlet/FileDownload?type=spec&file=CL21B222KB6WPNC.pdf&src-supplier=Avnet
footprint FP-CL21-IPC_C
pins: 1, 2

## CL31B106KAHVPNE
designator C?, comment value 10uF  (hidden comment: SCER 10UF 25V X7R 1206)
CER 10UF 25V X7R 1206; Manufacturer: Samsung; Manufacturer Part Number: CL31B106KAHVPNE; Dielectric Material: Ceramic; Multilayer: Yes; Tolerance  (fill in as +-): 10%; Reference Standard: AEC-Q200; Supplier: Digi-Key; Supplier Part Number: 1276-6814-1-ND; RoHS: Yes; Category: Ceramic Capacitors; Stock: 960621; Pricing: 1=0.44, 10=0.314, 50=0.2376, 100=0.2069, 500=0.15324, 1000=0.13025 (USD); Mounting Technology: Surface Mount; Pins: 2; Package Shape: Rectangular; Case/Package: 1206; Terminal Finish: Nickel; Min Operating Temperature: -55°C; Max Operating Temperature: 125°C; JESD-609 Code: e3; Capacitor Type: Ceramic; Packaging: Tape and Reel; Tolerance (fill in as +-): 10%; Rated DC Voltage (URdc): 25V; Temperature Characteristics Code: X7R; Termination: Wraparound; Reach SVHC Compliant: Yes; RoHS Compliant: Yes; ComponentLink1URL: https://datasheet.ciiva.com:443/pdfs/VipMasterIC/IC/SEMS/SEMS-S-A0009022704/SEMS-S-A0009023146-1.pdf?src-supplier=IHS+Markit; ComponentLink1Description: https://datasheet.ciiva.com:443/pdfs/VipMasterIC/IC/SEMS/SEMS-S-A0009022704/SEMS-S-A0009023146-1.pdf?src-supplier=IHS+Markit; ComponentLink2URL: http://www.samsungsem.com/kr/support/product-search/mlcc/CL31B106KAHVPNE.jsp?src-supplier=Digi-Key; ComponentLink2Description: http://www.samsungsem.com/kr/support/product-search/mlcc/CL31B106KAHVPNE.jsp?src-supplier=Digi-Key; ComponentLink3URL: http://www.samsungsem.com/kr/support/library/product-catalog/mlcc.jsp?src-supplier=Digi-Key; ComponentLink3Description: http://www.samsungsem.com/kr/support/library/product-catalog/mlcc.jsp?src-supplier=Digi-Key
footprint FP-CL31-IPC_C
pins: 1, 2

## CMS06(TE12L,Q,M)
designator D?, comment DIODE SCHOTTKY 30V 2A M-FLAT  (value not drawn)
Manufacturer: Toshiba; Manufacturer Part Number: CMS06(TE12L,Q,M); Diode Element Material: SILICON; Package Body Material: Plastic; Diode Type: RECTIFIER; Forward Voltage: 370mV; Non-rep Pk Forward Current-Max: 40A; Number of Elements: 1; Application(s): GENERAL PURPOSE; Max Reverse Current: 3mA; Supplier: Digi-Key; Supplier Part Number: CMS06QMCT-ND; RoHS: No; Category: Rectifier Diodes; Stock: 64445; Pricing: 1=0.54, 10=0.464, 100=0.3461, 500=0.27192, 1000=0.21012 (USD); Pins: 2; Package Shape: Rectangular; Min Operating Temperature: -40°C; Max Operating Temperature: 125°C; Max Output current: 2A; Rep Pk Reverse Voltage-Max: 30V; Surface Mount: Yes; Technology: SCHOTTKY; JESD-30 Code: R-PDSO-F2; Number of Phases: 1; Package Style: SMALL OUTLINEMeter; Terminal Form: Flat; Terminal Position: DUAL; ComponentLink1URL: https://datasheet.ciiva.com:443/pdfs/VipMasterIC/IC/TOSC/TOSCS48988/TOSCS48988-1.pdf?src-supplier=IHS+Markit; ComponentLink1Description: https://datasheet.ciiva.com:443/pdfs/VipMasterIC/IC/TOSC/TOSCS48988/TOSCS48988-1.pdf?src-supplier=IHS+Markit; ComponentLink2URL: https://datasheet.ciiva.com/8281/cms06-datasheet-en-20131101-8281819.pdf?src-supplier=Avnet; ComponentLink2Description: https://datasheet.ciiva.com/8281/cms06-datasheet-en-20131101-8281819.pdf?src-supplier=Avnet; ComponentLink3URL: https://datasheet.ciiva.com/916/dst-cms06-tde-en-1613-916722.pdf?src-supplier=Digi-Key; ComponentLink3Description: https://datasheet.ciiva.com/916/dst-cms06-tde-en-1613-916722.pdf?src-supplier=Digi-Key; ComponentLink4URL: https://datasheet.ciiva.com/916/dst-cms06-tde-en-1613-916723.pdf?src-supplier=Digi-Key; ComponentLink4Description: https://datasheet.ciiva.com/916/dst-cms06-tde-en-1613-916723.pdf?src-supplier=Digi-Key
footprint FP-M-FLAT-MFG
pins: 1 A, 2 C

## CRCW0805100KFKEA
designator R?, comment value 100kR  (hidden comment: RES SMD 100K OHM 1% 1/8W 0805)
RES SMD 100K OHM 1% 1/8W 0805, Thick Film; Manufacturer: Vishay; Manufacturer Part Number: CRCW0805100KFKEA; Power: 125mW; Rated Temperature: 70°C; Temperature Coefficient: 100ppm/°C; Working Voltage: 150V; Package Height: 0.45mm; Package Length: 2mm; Package Width: 1.25mm; Reference Standard: AEC-Q200; Supplier: Digi-Key; Supplier Part Number: 541-100KCCT-ND; RoHS: Yes; Category: Chip SMD Resistors; Stock: 25000; Pricing: 1=0.1, 10=0.059, 50=0.0324, 100=0.0238, 500=0.01454, 1000=0.01071 (USD); Mounting Technology: Surface Mount; Pins: 2; Package Shape: Rectangular; Terminal Finish: Nickel; Case/Package: 0805; Min Operating Temperature: -55°C; Max Operating Temperature: 155°C; Tolerance: 1%; JESD-609 Code: e3; Package Style: SMTMeter; Technology: METAL GLAZE/THICK FILM; Resistor Type: FIXED RESISTOR; Construction: Chip; Packaging: Tape and Reel; Termination: Wraparound; Reach SVHC Compliant: Yes; RoHS Compliant: Yes; ComponentLink1URL: https://datasheet.ciiva.com:443/pdfs/VipMasterIC/IC/VISH/VISH-S-A0007266705/VISH-S-A0007266705-1.pdf?src-supplier=IHS+Markit; ComponentLink1Description: https://datasheet.ciiva.com:443/pdfs/VipMasterIC/IC/VISH/VISH-S-A0007266705/VISH-S-A0007266705-1.pdf?src-supplier=IHS+Markit; ComponentLink2URL: https://datasheet.ciiva.com/16720/70201119-16720891.pdf?src-supplier=Allied+Electronics; ComponentLink2Description: https://datasheet.ciiva.com/16720/70201119-16720891.pdf?src-supplier=Allied+Electronics; ComponentLink3URL: https://datasheet.ciiva.com/16754/70201119-16754822.pdf?src-supplier=Allied+Electronics; ComponentLink3Description: https://datasheet.ciiva.com/16754/70201119-16754822.pdf?src-supplier=Allied+Electronics; ComponentLink4URL: https://datasheet.ciiva.com/7777/1697337-7777349.pdf?src-supplier=Element14; ComponentLink4Description: https://datasheet.ciiva.com/7777/1697337-7777349.pdf?src-supplier=Element14; ComponentLink5URL: https://datasheet.ciiva.com/7777/1720486-7777565.pdf?src-supplier=Element14; ComponentLink5Description: https://datasheet.ciiva.com/7777/1720486-7777565.pdf?src-supplier=Element14; ComponentLink6URL: https://datasheet.ciiva.com/16341/dcrcwe3-16341530.pdf?src-supplier=Future+Electronics; ComponentLink6Description: https://datasheet.ciiva.com/16341/dcrcwe3-16341530.pdf?src-supplier=Future+Electronics
footprint FP-CRCW0805-e3-IPC_C
pins: 1, 2

## CX3225SB48000D0FPJC1
designator X?, comment CRYSTAL 48.0000MHZ 8PF SMD  value 48MHz
footprint CX3225SB48000D0FPJC1
pins: 1 HOT_1, 2 GND_1, 3 HOT_2, 4 GND_2

## DRQ125-150-R
designator T?, comment INDUCT ARRAY 2 COIL 15.35UH SMD
Isolation Amplifier, 1 Func, 2121V Isolation-Min, 275MHz Band Width, PDSO8; Manufacturer: Texas Instruments; Manufacturer Part Number: AMC1311BQDWVRQ1; Supplier: Digi-Key; Supplier Part Number: 296-50938-1-ND; RoHS: Yes; Category: Amplifiers - Op Amps, Buffer, Instrumentation; Stock: 6669; Pricing: 1=9.28, 10=8.385, 25=7.9952, 100=6.942, 250=6.63, 500=6.045 (USD); Terminal Finish: Nickel; JESD-609 Code: e4; Amplifier Type: ISOLATION AMPLIFIER; Moisture Sensitivity Level: 3; Reach SVHC Compliant: Yes; RoHS Compliant: Yes; ComponentLink1URL: https://www.ti.com:443/lit/ds/symlink/amc1311-q1.pdf?src-supplier=IHS+Markit; ComponentLink1Description: https://www.ti.com:443/lit/ds/symlink/amc1311-q1.pdf?src-supplier=IHS+Markit; ComponentLink2URL: http://www.ti.com/lit/ds/symlink/amc1311-q1.pdf?src-supplier=Digi-Key; ComponentLink2Description: http://www.ti.com/lit/ds/symlink/amc1311-q1.pdf?src-supplier=Digi-Key; ComponentLink3URL: http://www.ti.com/general/docs/suppproductinfo.tsp?distId=10&amp;gotoUrl=http%3A%2F%2Fwww.ti.com%2Flit%2Fgpn%2Famc1311-q1&src-supplier=Digi-Key; ComponentLink3Description: http://www.ti.com/general/docs/suppproductinfo.tsp?distId=10&amp;gotoUrl=http%3A%2F%2Fwww.ti.com%2Flit%2Fgpn%2Famc1311-q1&src-supplier=Digi-Key
footprint DRQ125150R
pins: 1 L1_1, 2 L2_1, 3 L1_2, 4 L2_2